# EAGLE library part RF-FILTER (library roach-fem)
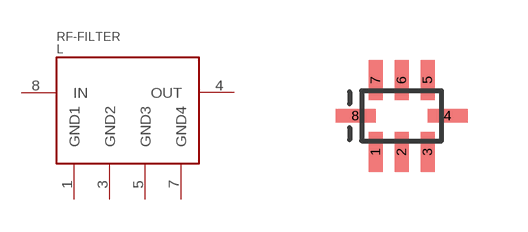
[diagram p2: symbol with the pads of RF-FILTER-0805; footprint RF-FILTER-0805]

Designator prefix L

## RF-FILTER-0805-X8  [RF-FILTER-0805]
1  GND1
3  GND2
4  OUT
5  GND3
7  GND4
8  IN

## Footprint RF-FILTER-0805 (pad centres in mm)
smd 0.35 x 1: 1 -0.65,-0.9; 2 0,-0.9; 3 0.65,-0.9; 5 0.65,0.9; 6 0,0.9; 7 -0.65,0.9
smd 1 x 0.35: 4 1.15,0; 8 -1.15,0